# EAGLE library part MCP1640 (library bschulz)
MCP1640 - Synchronous Boost Converter Characteristics: Vin: 0.8V ~ 5.5V Vout: 2V ~ 5.5V Output Current (max): 350mA (Compatable with 1.8A version) IQ: 19μA (typ) Operating Temperature: -40°C to 85°C Note: Consult datasheet <http://ww1.microchip.com/downloads/en/DeviceDoc/20002234D.pdf> for information regarding B/C/D variants Digikey: MCP1640BT-I/CHYCT-ND (MIC1640B, SOT23) <https://www.digikey.com/product-detail/en/microchip-technology/MCP1640BT-I-CHY/MCP1640BT-I-CHYCT-ND/2258618> MCP1640BT-I/MCCT-ND (MIC1640B, DFN) <https://www.digikey.com/product-detail/en/microchip-technology/MCP1640BT-I-MC/MCP1640BT-I-MCCT-ND/9450515>
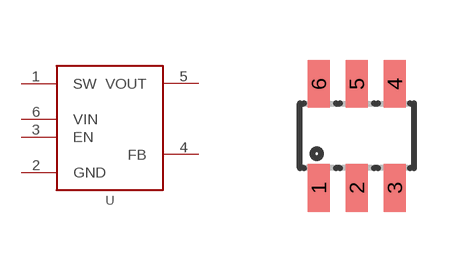
[diagram p117: symbol with the pads of SOT23-6L; footprint SOT23-6L]

Designator prefix U

## MCP1640SOT23 (DISP: MCP1640; MF: Microchip), MCP1640BSOT23 (DIGIKEY: MCP1640BT-I/CHYCT-ND; DISP: MCP1640B; MF: Microchip; MPN: MCP1640BT-I/CHY), MCP1640CSOT23 (DISP: MCP1640C; MF: Microchip), MCP1640DSOT23 (DISP: MCP1640D; MF: Microchip)  [SOT23-6L]
1  SW  in
2  GND  pwr
3  EN  in
4  FB  in
5  VOUT  pwr
6  VIN  pwr

## Footprint SOT23-6L (pad centres in mm)
Small Outline Transistor
smd 0.55 x 1.2: 1 -0.95,-1.3; 2 0,-1.3; 3 0.95,-1.3; 4 0.95,1.3; 5 0,1.3; 6 -0.95,1.3